# Altium footprint library Y0062100K000T9L.PcbLib: 1 footprints
Each footprint in its own frame and in the unit in brackets; x right, y up, seen from the top. Pads: shape width x height; smd on the part's side, far side on the other; paste and mask are expansions set on the pad; w line width, h text height; cw(c..) or ccw(c..) is an arc to the next point about the centre after c.
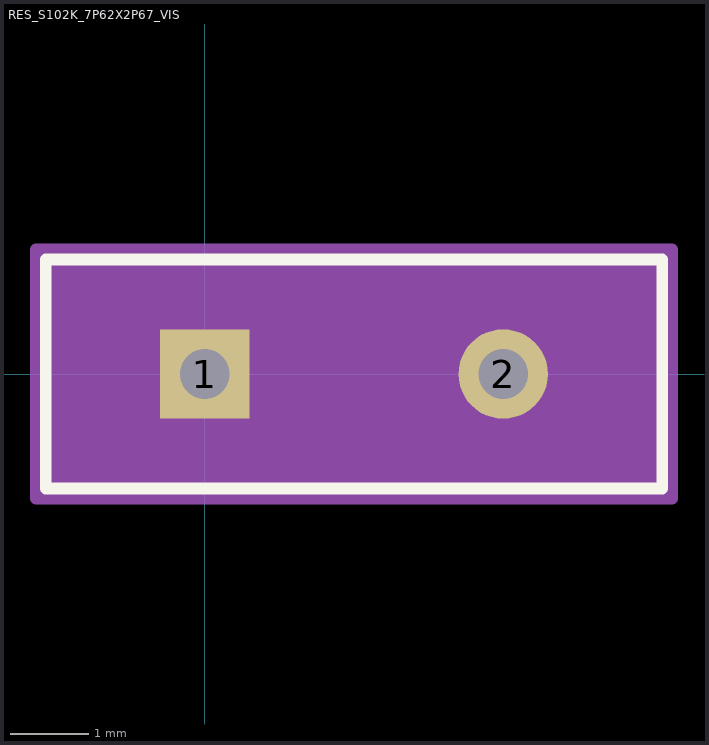
[diagram p0: the footprint, top view; thin cyan lines are the x and y axes]

## RES_S102K_7P62X2P67_VIS [mil]
pads (2):
  rect 45x45 hole 25 paste-22.5 mask+0: 1(0,0)
  round 45 hole 25 paste-22.5 mask+0: 2(150,0)
Top Overlay:
  lines w6: -80,-57.5 230,-57.5 230,57.5 -80,57.5 -80,-57.5
  text ".Designator" at -62.5,-25 h50
Mechanical 13:
  lines w1: -75,-52.5 225,-52.5 225,52.5 -75,52.5 -75,-52.5
  text ".Designator" at -62.5,-25 h50
Mechanical 15:
  region: 235,-62.5 -85,-62.5 -85,62.5 235,62.5
  lines w6: -85,-62.5 -85,62.5 235,62.5 235,-62.5 -85,-62.5
3D body "RES_S102K_7P62X2P67_VIS.step": height 335.98, standoff -180, extent -75,-52.52 225,52.52
3D body "RES_S102K_7P62X2P67_VIS.step": height 335.98, standoff -180, extent -75,-52.52 225,52.52